# Altium footprint library headers6.PcbLib: 1 footprints
Each footprint in its own frame and in the unit in brackets; x right, y up, seen from the top. Pads: shape width x height; smd on the part's side, far side on the other; paste and mask are expansions set on the pad; w line width, h text height; cw(c..) or ccw(c..) is an arc to the next point about the centre after c.
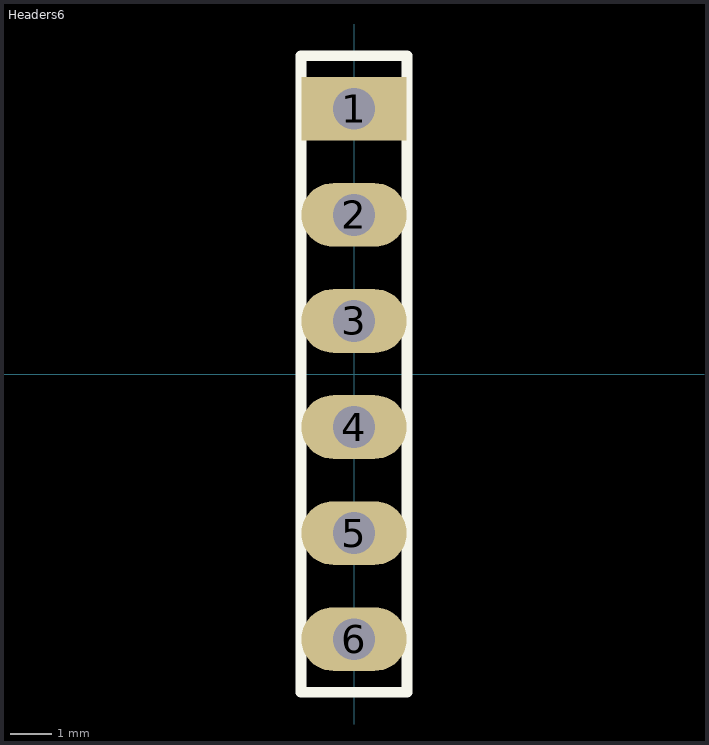
[diagram p0: the footprint, top view; thin cyan lines are the x and y axes]

## Headers6 [mil]
pads (6):
  rect 99.37x60 hole 39.37: 1(0,250)
  oval 99.37x60 hole 39.37: 2(0,150) 3(0,50) 4(0,-50) 5(0,-150) 6(0,-250)
Top Overlay:
  lines w10: -50,-300 50,-300 50,300 -50,300 -50,-300